# Altium integrated library 1SS355.IntLib: 1 symbol
Pins are listed as number, name and electrical type; pins without a type are passive.

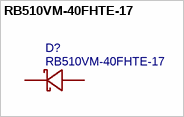
[diagram p0: symbol RB510VM-40FHTE-17]

## RB510VM-40FHTE-17
designator D?
Manufacturer: ROHM(罗姆); Contributor: lcsc; Supplier: LCSC; Supplier Part: C5842425; Manufacturer Part: RB510VM-40FHTE-17; JLCPCB Part Class: Extended Part; spicePre: D; spiceSymbolName: RB510VM-40FHTE-17
footprint SOD-323F_L1.7-W1.3-LS2.5-RD
pins: 1 C, 2 A